# Altium footprint library Dip Switch SMD 3 pos.PcbLib: 1 footprints
Each footprint in its own frame and in the unit in brackets; x right, y up, seen from the top. Pads: shape width x height; smd on the part's side, far side on the other; paste and mask are expansions set on the pad; w line width, h text height; cw(c..) or ccw(c..) is an arc to the next point about the centre after c.
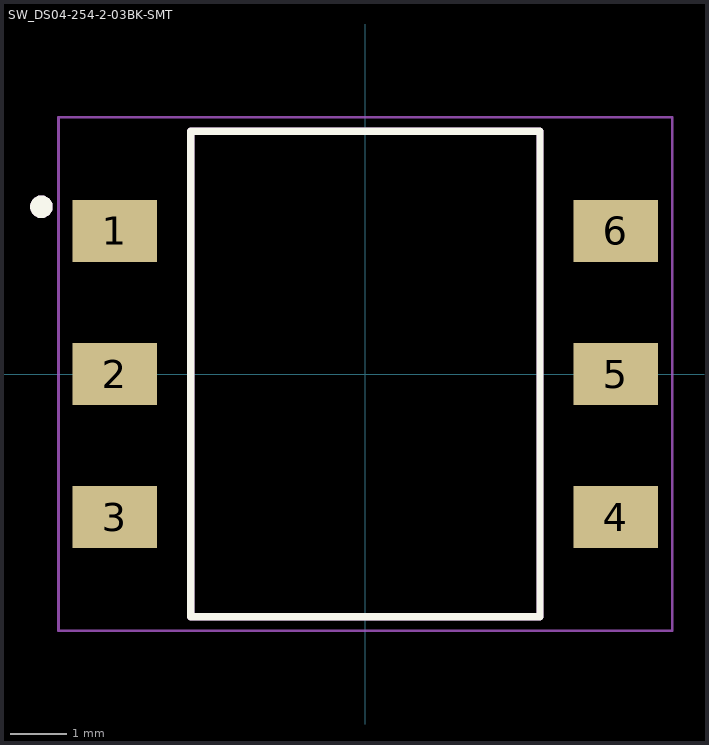
[diagram p0: the footprint, top view; thin cyan lines are the x and y axes]

## SW_DS04-254-2-03BK-SMT [mm]
height 4.86
pads (6):
  rect 1.5x1.1 smd: 1(-4.45,2.54) 2(-4.45,0) 3(-4.45,-2.54) 4(4.45,-2.54) 5(4.45,0) 6(4.45,2.54)
Top Overlay:
  circle w0.2: c-5.75,2.97 r0.1
  lines w0.127: -3.1,-4.31 -3.1,4.31 3.1,4.31 3.1,-4.31 -3.1,-4.31
Mechanical 13:
  circle w0.2: c-5.75,2.97 r0.1
  lines w0.127: -3.1,-4.31 -3.1,4.31 3.1,4.31 3.1,-4.31 -3.1,-4.31
Mechanical 15:
  lines w0.05: -5.45,-4.56 5.45,-4.56 5.45,4.56 -5.45,4.56 -5.45,-4.56
3D body "A6S-3101-H--3DModel-STEP-273799.STEP": height 3.7, standoff 0, extent -4.9,-4.28 4.9,4.28